# EAGLE library part KK156-08 (library con-molex-kk)
HEADER
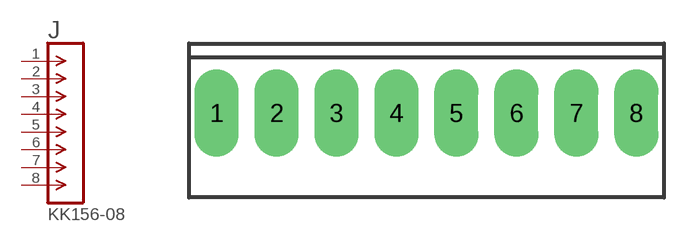
[diagram p164: symbol with the pads of KK156-08; footprint KK156-08]

Designator prefix J

## KK156-08  [KK156-08]
1  1  pas
2  2  pas
3  3  pas
4  4  pas
5  5  pas
6  6  pas
7  7  pas
8  8  pas

## Footprint KK156-08 (pad centres in mm)
HEADER - 0.156" SPOX 5273 Series
drill 1.93 long: 1 -13.868,0; 2 -9.906,0; 3 -5.944,0; 4 -1.981,0; 5 1.981,0; 6 5.944,0; 7 9.906,0; 8 13.868,0